# EAGLE library part FPC6 (library laforge)
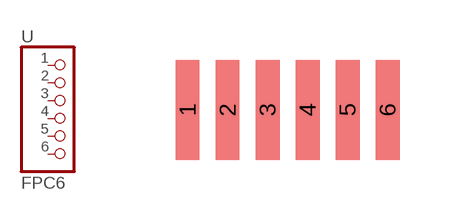
[diagram p27: symbol with the pads of FPC_SODLER_6; footprint FPC_SODLER_6]

Designator prefix -

## FPC6  [FPC_SODLER_6]
1  1  pas
2  2  pas
3  3  pas
4  4  pas
5  5  pas
6  6  pas

## Footprint FPC_SODLER_6 (pad centres in mm)
smd 0.6 x 2.5: 1 -2.5,0.5; 2 -1.5,0.5; 3 -0.5,0.5; 4 0.5,0.5; 5 1.5,0.5; 6 2.5,0.5